# Altium footprint library 钽电容22uf.PcbLib: 1 footprints
Each footprint in its own frame and in the unit in brackets; x right, y up, seen from the top. Pads: shape width x height; smd on the part's side, far side on the other; paste and mask are expansions set on the pad; w line width, h text height; cw(c..) or ccw(c..) is an arc to the next point about the centre after c.
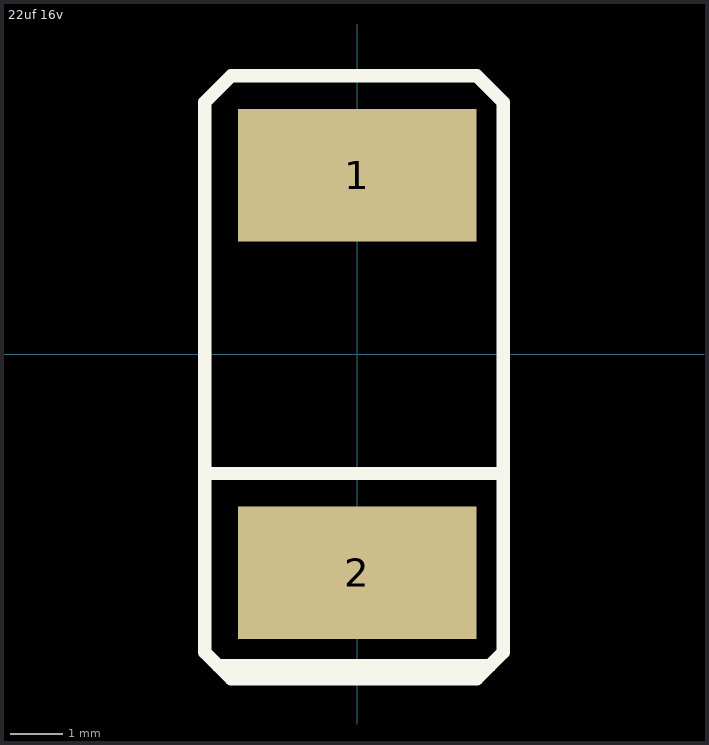
[diagram p0: the footprint, top view; thin cyan lines are the x and y axes]

## 22uf 16v [mil]
pads (2):
  rect 180x100 smd: 1(0,135) 2(0,-165)
Top Overlay:
  lines w10: -115,-90 110,-90 ; -105,-235 100,-235 ; -115,-225 -95,-245 90,-245 110,-225 110,190 90,210 -95,210 -115,190 -115,-225